# EAGLE library part SX1272/73 (library semtech)
UHF Transceiver 860 MHz - 1020 MHz Low Power Long Range Transceiver
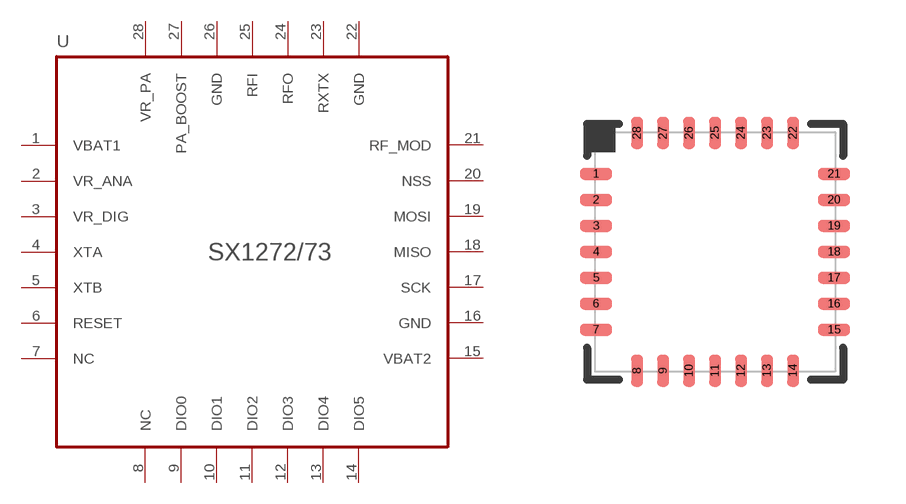
[diagram p4: symbol with the pads of QFN28; footprint QFN28]

Designator prefix U

## SX1272/73  [QFN28]
1  VBAT1  pwr
2  VR_ANA  pas
3  VR_DIG  pas
4  XTA
5  XTB
6  RESET
7  NC  in
8  NC  in
9  DIO0
10  DIO1
11  DIO2
12  DIO3
13  DIO4
14  DIO5
15  VBAT2  pwr
16  GND  pwr
17  SCK
18  MISO  out
19  MOSI
20  NSS  in
21  RF_MOD  out
22  GND  pwr
23  RXTX  out
24  RFO  out
25  RFI
26  GND  pwr
27  PA_BOOST  out
28  VR_PA  pas

## Footprint QFN28 (pad centres in mm)
QFN28 6x6 mm body
smd 0.8 x 0.3: 1 -2.975,1.95; 2 -2.975,1.3; 3 -2.975,0.65; 4 -2.975,0; 5 -2.975,-0.65; 6 -2.975,-1.3; 7 -2.975,-1.95; 15 2.975,-1.95; 16 2.975,-1.3; 17 2.975,-0.65; 18 2.975,0; 19 2.975,0.65; 20 2.975,1.3; 21 2.975,1.95
smd 0.3 x 0.8: 8 -1.95,-2.975; 9 -1.3,-2.975; 10 -0.65,-2.975; 11 0,-2.975; 12 0.65,-2.975; 13 1.3,-2.975; 14 1.95,-2.975; 22 1.95,2.975; 23 1.3,2.975; 24 0.65,2.975; 25 0,2.975; 26 -0.65,2.975; 27 -1.3,2.975; 28 -1.95,2.975